# EAGLE library part M54564FP (library Itead-IC)
ICM004
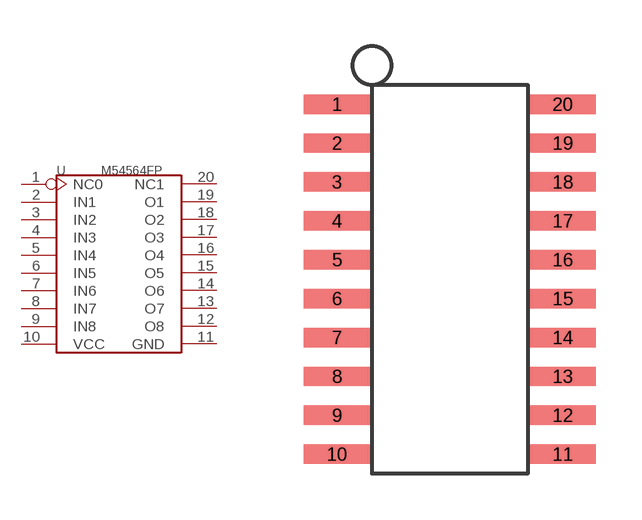
[diagram p8: symbol with the pads of SOP20; footprint SOP20]

Designator prefix -

## M54564FP  [SOP20]
1  NC0
2  IN1
3  IN2
4  IN3
5  IN4
6  IN5
7  IN6
8  IN7
9  IN8
10  VCC
11  GND
12  O8
13  O7
14  O6
15  O5
16  O4
17  O3
18  O2
19  O1
20  NC1

## Footprint SOP20 (pad centres in mm)
SMALL OUTLINE PACKAGE
smd 2.159 x 0.635: 1 -3.683,5.715; 2 -3.683,4.445; 3 -3.683,3.175; 4 -3.683,1.905; 5 -3.683,0.635; 6 -3.683,-0.635; 7 -3.683,-1.905; 8 -3.683,-3.175; 9 -3.683,-4.445; 10 -3.683,-5.715; 11 3.683,-5.715; 12 3.683,-4.445; 13 3.683,-3.175; 14 3.683,-1.905; 15 3.683,-0.635; 16 3.683,0.635; 17 3.683,1.905; 18 3.683,3.175; 19 3.683,4.445; 20 3.683,5.715